# EAGLE library part BTS7960_H-BRIDGE (library BTS7960_H-BRIDGE)
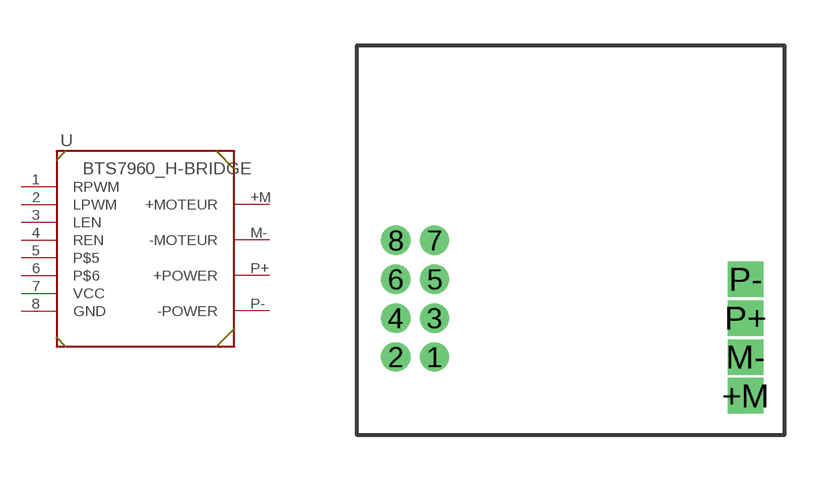
[diagram p0: symbol with the pads of BTS7960_H-BRIDGE; footprint BTS7960_H-BRIDGE]

Designator prefix -

## BTS7960_H-BRIDGE  [BTS7960_H-BRIDGE]
1  RPWM
2  LPWM
3  LEN
4  REN
5  P$5
6  P$6
7  VCC
8  GND
+M  +MOTEUR
M-  -MOTEUR
P+  +POWER
P-  -POWER

## Footprint BTS7960_H-BRIDGE (pad centres in mm)
drill 0.45: 1 2.54,2.54; 2 1.27,2.54; 3 2.54,3.81; 4 1.27,3.81; 5 2.54,5.08; 6 1.27,5.08; 7 2.54,6.35; 8 1.27,6.35
drill 0.65 square: +M 12.7,1.27; M- 12.7,2.54; P+ 12.7,3.81; P- 12.7,5.08